# Altium footprint library ASURT.PcbLib: 11 footprints
Each footprint in its own frame and in the unit in brackets; x right, y up, seen from the top. Pads: shape width x height; smd on the part's side, far side on the other; paste and mask are expansions set on the pad; w line width, h text height; cw(c..) or ccw(c..) is an arc to the next point about the centre after c.
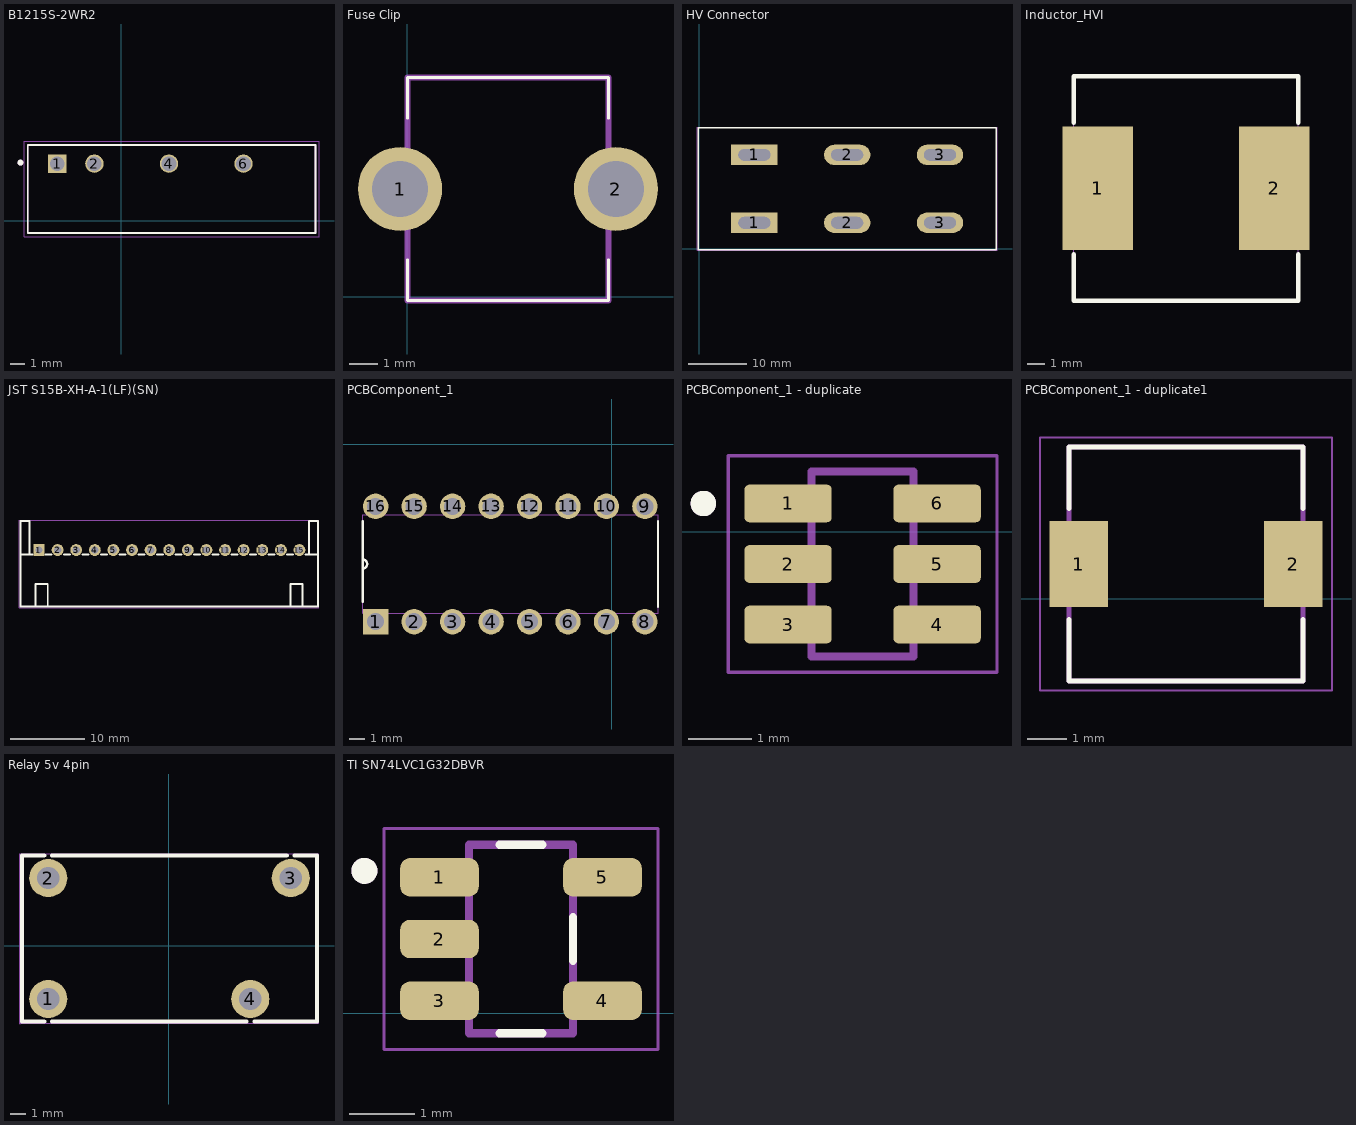
[diagram p0: the footprints below, top view; thin cyan lines are the x and y axes]

## B1215S-2WR2 [mm] "12v to 15v isolated DC-DC converter"
pads (4):
  rect 1.25x1.25 hole 1: 1(-4.371,3.889)
  round 1.25 hole 1 mask+0: 2(-1.831,3.889)
  round 1.25 hole 1 mask-2539.97: 4(3.249,3.889)
  round 1.25 hole 1: 6(8.329,3.889)
Top Overlay:
  circle w0.2: c-6.871,3.959 r0.1
  lines w0.127: -6.371,-0.841 -6.371,5.159 13.229,5.159 13.229,-0.841 -6.371,-0.841
Top Solder:
  circle w0.025: c3.249,3.889 r0.012
Bottom Solder:
  circle w0.025: c3.249,3.889 r0.012
Mechanical 13:
  circle w0.2: c-6.871,3.959 r0.1
  lines w0.127: -6.371,-0.841 -6.371,5.159 13.229,5.159 13.229,-0.841 -6.371,-0.841
Mechanical 15:
  lines w0.05: -6.621,-1.091 13.479,-1.091 13.479,5.409 -6.621,5.409 -6.621,-1.091

## Edge Connector [mm]

## Fuse Clip [mm]
pads (2):
  round 2.97 hole 1.98: 1(-0.254,3.81) 2(7.366,3.81)
Top Overlay:
  lines w0.1: 0.006,1.31 0.006,-0.125 7.106,-0.125 7.106,1.31 ; 0.006,6.31 0.006,7.745 7.106,7.745 7.106,6.31
Mechanical 15:
  lines w0.2: 0.006,-0.125 0.006,7.745 7.106,7.745 7.106,-0.125 0.006,-0.125

## HV Connector [mm] "1k vdc rated connector"
pads (6):
  rect 8x3.5 hole 2 slot 5.5 at 0 deg: 1(9.506,4.456) 1(9.506,16.156)
  oval 8x3.5 hole 2 slot 5.5 at 0 deg: 2(25.506,4.456) 2(25.506,16.156) 3(41.506,4.456) 3(41.506,16.156)
Top Overlay:
  lines w0.254: -0.194,-0.194 -0.194,20.806 51.206,20.806 51.206,-0.194 -0.194,-0.194
Mechanical 15:
  region: -0.261,-0.321 -0.261,-0.346 -0.296,-0.381 -0.346,-0.381 -0.381,-0.346 -0.381,-0.321 -0.381,-0.296 -0.346,-0.261 -0.296,-0.261 -0.261,-0.296
  region: 7.756,5.336 11.256,5.336 11.256,3.576 7.756,3.576
  region: 23.756,5.336 27.256,5.336 27.256,3.576 23.756,3.576
  region: 39.756,5.336 43.256,5.336 43.256,3.576 39.756,3.576
  region: 39.756,17.036 43.256,17.036 43.256,15.276 39.756,15.276
  region: 23.756,17.036 27.256,17.036 27.256,15.276 23.756,15.276
  region: 7.756,17.036 11.256,17.036 11.256,15.276 7.756,15.276
  lines w0.051: -0.321,-0.321 51.333,-0.321 51.333,20.933 -0.321,20.933 -0.321,-0.321

## Inductor_HVI [mm]
pads (2):
  rect 4x7 smd paste+0 mask+0.05: 1(-168.815,83.626) 2(-158.815,83.626)
Top Overlay:
  lines w0.254: -170.165,79.895 -170.165,77.276 -157.465,77.276 -157.465,79.895 ; -170.165,87.357 -170.165,89.976 -157.465,89.976 -157.465,87.357
Mechanical 15:
  region: -170.165,86.126 -167.865,86.126 -167.865,81.126 -170.165,81.126
  region: -159.765,86.126 -157.465,86.126 -157.465,81.126 -159.765,81.126
  region: -170.105,77.276 -170.105,77.251 -170.14,77.216 -170.19,77.216 -170.225,77.251 -170.225,77.276 -170.225,77.301 -170.19,77.336 -170.14,77.336 -170.105,77.301
  lines w0.051: -170.165,77.276 -157.465,77.276 -157.465,89.976 -170.165,89.976 -170.165,77.276

## JST S15B-XH-A-1(LF)(SN) [mm]
pads (15):
  rect 1.524x1.6 hole 1: 1(-647.306,629.545)
  round 1.6 hole 1: 2(-644.806,629.545) 3(-642.306,629.545) 4(-639.806,629.545) 5(-637.306,629.545) 6(-634.806,629.545) 7(-632.306,629.545) 8(-629.806,629.545) 9(-627.306,629.545) 10(-624.806,629.545) 11(-622.306,629.545) 12(-619.806,629.545) 13(-617.306,629.545) 14(-614.806,629.545) 15(-612.306,629.545)
Top Overlay:
  lines w0.254: -649.806,628.945 -648.144,628.945 ; -648.576,628.945 -648.576,633.445 -649.806,633.445 -649.806,621.945 -609.806,621.945 -609.806,633.445 -611.036,633.445 -611.036,628.945 ; -647.763,621.945 -647.763,624.975 -646.136,624.975 -646.136,621.945 ; -646.468,628.945 -645.644,628.945 ; -643.968,628.945 -643.144,628.945 ; -641.468,628.945 -640.644,628.945 ; -638.968,628.945 -638.144,628.945 ; -636.468,628.945 -635.644,628.945 ; -633.968,628.945 -633.144,628.945 ; -631.468,628.945 -630.644,628.945 ; -628.968,628.945 -628.144,628.945 ; -626.468,628.945 -625.644,628.945 ; -623.968,628.945 -623.299,628.945 -623.144,628.945 ; -621.468,628.945 -620.644,628.945 ; -618.968,628.945 -618.144,628.945 ; -616.468,628.945 -615.644,628.945 ; -613.968,628.945 -613.144,628.945 ; -613.506,621.945 -613.506,624.975 -611.879,624.975 -611.879,621.945 ; -611.468,628.945 -609.806,628.945
Mechanical 15:
  drawing of 20 lines, arcs and shapes, not listed

## PCBComponent_1 [mil]
pads (16):
  rect 66x66 hole 44: 1(-613.16,-460.74)
  round 66 hole 44: 2(-513.16,-460.74) 3(-413.16,-460.74) 4(-313.16,-460.74) 5(-213.16,-460.74) 6(-113.16,-460.74) 7(-13.16,-460.74) 8(86.84,-460.74) 9(86.84,-160.74) 10(-13.16,-160.74) 11(-113.16,-160.74) 12(-213.16,-160.74) 13(-313.16,-160.74) 14(-413.16,-160.74) 15(-513.16,-160.74) 16(-613.16,-160.74)
Top Overlay:
  lines w6: -647.16,-408.74 -647.16,-322.74 ; -647.16,-199.74 -647.16,-298.74 ; 120.84,-421.74 120.84,-199.74 ; -647.16,-322.74 ccw(c-647.16,-310.74) -647.16,-298.74 ; -647.16,-322.74 -647.16,-298.74
Mechanical 13:
  lines w0: -647.16,-322.74 ccw(c-647.16,-310.74) -647.16,-298.74 ; -647.16,-322.74 -647.16,-438.74 120.84,-438.74 120.84,-182.74 -647.16,-182.74 -647.16,-298.74 ; -647.16,-322.74 -647.16,-298.74 ; -635.16,-482.74 -591.16,-482.74 -591.16,-438.74 -635.16,-438.74 -635.16,-482.74 ; -635.16,-182.74 -635.16,-138.74 -591.16,-138.74 -591.16,-182.74 -635.16,-182.74 ; -535.16,-482.74 -491.16,-482.74 -491.16,-438.74 -535.16,-438.74 -535.16,-482.74 ; -535.16,-182.74 -535.16,-138.74 -491.16,-138.74 -491.16,-182.74 -535.16,-182.74 ; -435.16,-482.74 -391.16,-482.74 -391.16,-438.74 -435.16,-438.74 -435.16,-482.74 ; -435.16,-182.74 -435.16,-138.74 -391.16,-138.74 -391.16,-182.74 -435.16,-182.74 ; -335.16,-482.74 -291.16,-482.74 -291.16,-438.74 -335.16,-438.74 -335.16,-482.74 ; -335.16,-182.74 -335.16,-138.74 -291.16,-138.74 -291.16,-182.74 -335.16,-182.74 ; -235.16,-482.74 -191.16,-482.74 -191.16,-438.74 -235.16,-438.74 -235.16,-482.74 ; -235.16,-182.74 -235.16,-138.74 -191.16,-138.74 -191.16,-182.74 -235.16,-182.74 ; -135.16,-482.74 -91.16,-482.74 -91.16,-438.74 -135.16,-438.74 -135.16,-482.74 ; -135.16,-182.74 -135.16,-138.74 -91.16,-138.74 -91.16,-182.74 -135.16,-182.74 ; -35.16,-482.74 8.84,-482.74 8.84,-438.74 -35.16,-438.74 -35.16,-482.74 ; -35.16,-182.74 -35.16,-138.74 8.84,-138.74 8.84,-182.74 -35.16,-182.74 ; 64.84,-482.74 108.84,-482.74 108.84,-438.74 64.84,-438.74 64.84,-482.74 ; 64.84,-182.74 64.84,-138.74 108.84,-138.74 108.84,-182.74 64.84,-182.74
3D body "HEF4027BP (1).STEP": height 165.35, standoff -141.73, extent -639.51,-500.88 109.51,-129.12

## PCBComponent_1 - duplicate [mm]
pads (6):
  rrect25% 1.37x0.59 smd: 1(-10.949,0.442) 2(-10.949,-0.508) 3(-10.949,-1.458) 4(-8.609,-1.458) 5(-8.609,-0.508) 6(-8.609,0.442)
Top Overlay:
  circle w0.2: c-12.279,0.442 r0.1
Mechanical 13:
  circle w0.2: c-12.279,0.442 r0.1
  lines w0.127: -10.579,-1.958 -8.979,-1.958 -8.979,0.942 -10.579,0.942 -10.579,-1.958
Mechanical 15:
  lines w0.05: -11.889,-2.208 -11.889,1.192 -7.669,1.192 -7.669,-2.208 -11.889,-2.208
3D body "step_temp.STEP": height 1.4, standoff -0.05, extent -11.179,-1.97 -8.379,0.954

## PCBComponent_1 - duplicate1 [mm]
pads (2):
  rect 1.5x2.2 smd: 1(-7.83,0.889) 2(-2.33,0.889)
Top Overlay:
  lines w0.127: -8.08,-0.531 -8.08,-2.111 -2.08,-2.111 -2.08,-0.531 ; -8.08,2.309 -8.08,3.889 -2.08,3.889 -2.08,2.309
Mechanical 13:
  lines w0.127: -8.08,-2.111 -2.08,-2.111 -2.08,3.889 -8.08,3.889 -8.08,-2.111
Mechanical 15:
  lines w0.05: -8.83,-2.361 -1.33,-2.361 -1.33,4.139 -8.83,4.139 -8.83,-2.361
3D body "step_temp.STEP": height 3, standoff 0, extent -8.08,-2.111 -2.08,3.889

## Relay 5v 4pin [mm] "FANHAR Power Relay FH17-1A2STL-DC5V 10A 4 Pin"
pads (4):
  round 2.4 hole 1.4: 1(-7.56,-3.359) 2(-7.56,4.241) 3(7.68,4.241) 4(5.14,-3.359)
Top Overlay:
  lines w0.254: -7.81,-4.766 -9.211,-4.766 -9.211,5.648 -7.81,5.648 ; -7.31,-4.766 4.89,-4.766 ; -7.31,5.648 7.43,5.648 ; 5.39,-4.766 9.331,-4.766 9.331,5.648 7.93,5.648
Mechanical 15:
  region: -6.96,-3.359 -6.96,-3.478 -7.051,-3.699 -7.22,-3.868 -7.441,-3.959 -7.679,-3.959 -7.9,-3.868 -8.069,-3.699 -8.16,-3.478 -8.16,-3.359 -8.16,-3.24 -8.069,-3.019 -7.9,-2.85 -7.679,-2.759 -7.441,-2.759 -7.22,-2.85 -7.051,-3.019 -6.96,-3.24
  region: -6.96,4.241 -6.96,4.122 -7.051,3.901 -7.22,3.732 -7.441,3.641 -7.679,3.641 -7.9,3.732 -8.069,3.901 -8.16,4.122 -8.16,4.241 -8.16,4.36 -8.069,4.581 -7.9,4.75 -7.679,4.841 -7.441,4.841 -7.22,4.75 -7.051,4.581 -6.96,4.36
  region: 8.28,4.241 8.28,4.122 8.189,3.901 8.02,3.732 7.799,3.641 7.561,3.641 7.34,3.732 7.171,3.901 7.08,4.122 7.08,4.241 7.08,4.36 7.171,4.581 7.34,4.75 7.561,4.841 7.799,4.841 8.02,4.75 8.189,4.581 8.28,4.36
  region: 5.74,-3.359 5.74,-3.478 5.649,-3.699 5.48,-3.868 5.259,-3.959 5.021,-3.959 4.8,-3.868 4.631,-3.699 4.54,-3.478 4.54,-3.359 4.54,-3.24 4.631,-3.019 4.8,-2.85 5.021,-2.759 5.259,-2.759 5.48,-2.85 5.649,-3.019 5.74,-3.24
  region: -9.278,-4.893 -9.278,-4.918 -9.313,-4.953 -9.363,-4.953 -9.398,-4.918 -9.398,-4.893 -9.398,-4.868 -9.363,-4.833 -9.313,-4.833 -9.278,-4.868
  lines w0.051: -9.338,-4.893 9.458,-4.893 9.458,5.775 -9.338,5.775 -9.338,-4.893

## TI SN74LVC1G32DBVR [mm]
pads (5):
  rrect50% 1.21x0.59 smd: 1(-5.446,2.093) 2(-5.446,1.143) 3(-5.446,0.193) 4(-2.936,0.193) 5(-2.936,2.093)
Top Overlay:
  circle w0.2: c-6.601,2.193 r0.1
  lines w0.127: -4.521,-0.307 -3.861,-0.307 ; -4.521,2.593 -3.861,2.593 ; -3.391,0.808 -3.391,1.478
Mechanical 13:
  circle w0.2: c-6.601,2.193 r0.1
  lines w0.127: -4.991,-0.307 -3.391,-0.307 -3.391,2.593 -4.991,2.593 -4.991,-0.307
Mechanical 15:
  lines w0.05: -6.301,-0.557 -6.301,2.843 -2.081,2.843 -2.081,-0.557 -6.301,-0.557
3D body "step_temp.STEP": height 1.45, standoff 0, extent -5.591,-0.307 -2.791,2.593